# Altium integrated library ADUM1401BRWZ-RL.IntLib: 1 symbol
Pins are listed as number, name and electrical type; pins without a type are passive.

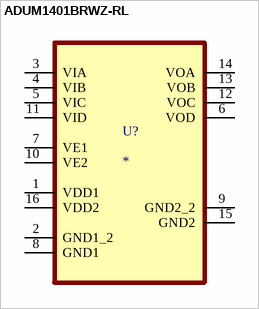
[diagram p0: symbol ADUM1401BRWZ-RL]

## ADUM1401BRWZ-RL
designator U?
General Purpose Digital Isolator 2500Vrms 4 Channel 10Mbps 25kV/Âµs CMTI 16-SOIC (0.295, 7.50mm Width); MF: Analog Devices; MP: ADUM1401BRWZ-RL; Check_prices: https://www.snapeda.com/parts/ADUM1401BRWZ-RL/Analog%20Devices%20Inc./view-part/284352/?ref=eda; Package: SOIC -16 Analog Devices; Value: *; Price: None; Availability: Good; SnapEDA_Link: https://www.snapeda.com/parts/ADUM1401BRWZ-RL/Analog%20Devices%20Inc./view-part/284352/?ref=snap; Purchase-URL: https://pricing.snapeda.com/search/part/ADUM1401BRWZ-RL/?ref=eda
footprint SOIC127P1032X265-16N
pins: 1 VDD1 (power), 2 GND1_2, 3 VIA, 4 VIB, 5 VIC, 6 VOD, 7 VE1, 8 GND1, 9 GND2_2, 10 VE2, 11 VID, 12 VOC, 13 VOB, 14 VOA, 15 GND2, 16 VDD2 (power)